# Altium schematic symbol library MEMS_LIB.SchLib: 12 symbols
Pins are listed as number, name and electrical type; pins without a type are passive.

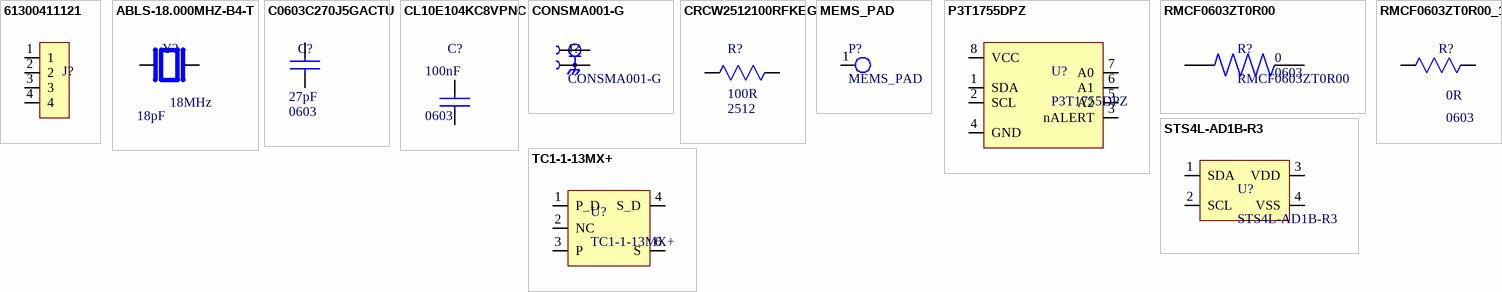
[diagram p0: symbols 61300411121 to TC1-1-13MX+]

## 61300411121
designator J?  (value not drawn)
CONN HEADER VERT 4POS 2.54MM; MF: WÃ¼rth Elektronik; SnapEDA_Link: https://www.snapeda.com/parts/61300411121/W%25C3%25BCrth+Elektronik+Midcom/view-part/?ref=snap; Package: None; Value: *; MP: 61300411121; Check_prices: https://www.snapeda.com/parts/61300411121/W%25C3%25BCrth+Elektronik+Midcom/view-part/?ref=eda; Supplier 1: Newark; Supplier Part Number 1: 20X0951
footprint WURTH_61300411121
pins: 1, 2, 3, 4

## ABLS-18.000MHZ-B4-T
designator Y?  value 18MHz  Capacitance: 18pF  (hidden comment: ABLS-18.000MHZ-B4-T)
CRYSTAL 18.0000MHZ 18PF SMD; MF: Abracon; SnapEDA_Link: https://www.snapeda.com/parts/ABLS-18.000MHZ-B4-T/Abracon/view-part/?ref=snap; Package: HC-49/US Abracon LLC; MP: ABLS-18.000MHZ-B4-T; Check_prices: https://www.snapeda.com/parts/ABLS-18.000MHZ-B4-T/Abracon/view-part/?ref=eda; Supplier 1: DigiKey; Supplier Part Number 1: 535-10229-1-ND
footprint XTAL_ABLS-18.000MHZ-B4-T
pins: 1, 2

## C0603C270J5GACTU
designator C?  value 27pF  Packaging: 0603  (hidden comment: C0603C270J5GACTU)
CAP CER 27PF 50V C0G/NP0 0603; Supplier 1: Newark; Supplier Part Number 1: 53M7200
footprint C0603
pins: 1, 2

## CL10E104KC8VPNC
designator C?  value 100nF  Case: 0603  (hidden comment: CL10E104KC8VPNC)
CAP CER 100NF 100V X8L 0603; Manufacturer: Samsung; Supplier: Digikey; Supplier Part Number: 1276-CL10E104KC8VPNCCT-ND; Manufacturer Part Number: CL10E104KC8VPNC; RoHS: No; Stock: 47712; Pricing: 1=0.27, 10=0.155, 50=0.1104, 100=0.0966, 500=0.07306, 1000=0.06573 (USD); Supplier 1: Mouser; Supplier Part Number 1: 187-CL10E104KC8VPNC
footprint C0603
pins: 1, 2

## CONSMA001-G
designator J?
CONN SMA RCPT STR 50 OHM PCB
footprint CONSMA001-G
pins: 1, S1 2, S2 2, S3 2, S4 2

## CRCW2512100RFKEG
designator R?  value 100R  Packaging: 2512  (hidden comment: CRCW2512100RFKEG)
RES SMD 100 OHM 1% 1W 2512
footprint R2512
pins: 1, 2

## MEMS_PAD
designator P?
PAD MEMS connection
footprint MEMS_PAD
pins: 1

## P3T1755DPZ
designator U?
SENSOR DGTL -40C ~ 125C 8-TSSOP; Supplier 1: DigiKey; Supplier Part Number 1: 568-P3T1755DPZCT-ND
footprint TSSOP8_P3T1755DPZ_NXP
pins: 1 SDA, 2 SCL, 3 nALERT, 4 GND (power), 5 A2, 6 A1, 7 A0, 8 VCC (power)

## RMCF0603ZT0R00
designator R?  value 0  Package: 0603
0 Ohms Jumper 0.1W, 1/10W Chip Resistor 0603 (1608 Metric) Automotive AEC-Q200 Thick Film; MF: Stackpole Electronics; SnapEDA_Link: https://www.snapeda.com/parts/RMCF0603ZT0R00/Stackpole+Electronics+Inc/view-part/?ref=snap; MP: RMCF0603ZT0R00; Check_prices: https://www.snapeda.com/parts/RMCF0603ZT0R00/Stackpole+Electronics+Inc/view-part/?ref=eda; Supplier 1: Avnet; Supplier Part Number 1: RMCF0603ZT0R00
footprint R0603
pins: 1, 2

## RMCF0603ZT0R00_1
designator R?, comment value 0R  Package: 0603  (hidden comment: RMCF0603ZT0R00)
RES 0 OHM JUMPER 1/10W 0603; MF: Stackpole Electronics; SnapEDA_Link: https://www.snapeda.com/parts/RMCF0603ZT0R00/Stackpole+Electronics+Inc/view-part/?ref=snap; MP: RMCF0603ZT0R00; Check_prices: https://www.snapeda.com/parts/RMCF0603ZT0R00/Stackpole+Electronics+Inc/view-part/?ref=eda; Supplier 1: DigiKey; Supplier Part Number 1: RMCF0603ZT0R00CT-ND
footprint R0603
pins: 1, 2

## STS4L-AD1B-R3
designator U?
IC - TEMPERATURE SENSOR 4-DFN; Supplier 1: DigiKey; Supplier Part Number 1: 1649-STS4L-AD1B-R3CT-ND
footprint STS4L-AD1B-R3
pins: 1 SDA, 2 SCL, 3 VDD, 4 VSS

## TC1-1-13MX+
designator U?
1:1 CORE & WIRE TRANSFORMER, 4.5
footprint TC1-1-13MX+
pins: 1 P_D, 2 NC, 3 P, 4 S_D, 6 S